# Altium schematic symbol library NHD-0420AZ-FSW-GBW-33V3.SchLib: 1 symbol
Pins are listed as number, name and electrical type; pins without a type are passive.

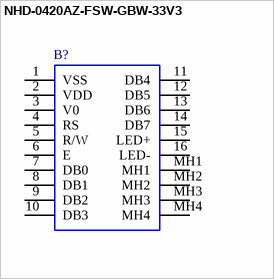
[diagram p0: symbol NHD-0420AZ-FSW-GBW-33V3]

## NHD-0420AZ-FSW-GBW-33V3
designator B?
LCD Character Display Modules & Accessories STN- GRAY Transfl 77.5 x 47.0; Manufacturer_Name: Newhaven Display; Geometry.Height: 14.5mm; Manufacturer_Part_Number: NHD-0420AZ-FSW-GBW-33V3; Mouser Part Number: 763-0420AZFSWGBW33V3; Mouser Price/Stock: https://www.mouser.co.uk/ProductDetail/Newhaven-Display/NHD-0420AZ-FSW-GBW-33V3?qs=G49gCGQm93jUf0i9XnwMsw%3D%3D; Arrow Part Number: *; Arrow Price/Stock: *; Mouser Testing Part Number: *; Mouser Testing Price/Stock: *; Datasheet Link: http://www.newhavendisplay.com/specs/NHD-0420AZ-FSW-GBW-33V3.pdf
footprint NHD0420AZFSWGBW33V3
pins: 1 VSS, 2 VDD, 3 V0, 4 RS, 5 R/W, 6 E, 7 DB0, 8 DB1, 9 DB2, 10 DB3, 11 DB4, 12 DB5, 13 DB6, 14 DB7, 15 LED+, 16 LED-, MH1, MH2, MH3, MH4